# EAGLE library part CON_FFC7_NUTUBE (library wheat)
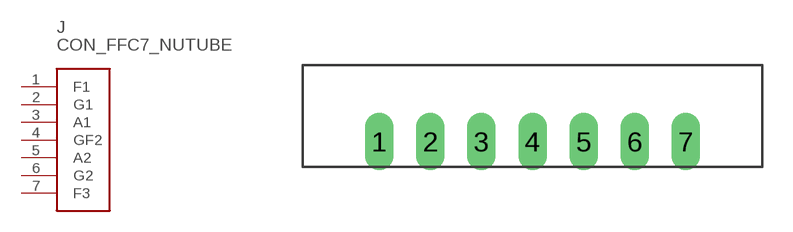
[diagram p292: symbol with the pads of CON_FLEX7; footprint CON_FLEX7]

Designator prefix J

## CON_FFC7_NUTUBE  [CON_FLEX7]
1  F1
2  G1
3  A1
4  GF2
5  A2
6  G2
7  F3

## Footprint CON_FLEX7 (pad centres in mm)
drill 0.9 pad 1.422 long: 1 -7.62,0; 2 -5.08,0; 3 -2.54,0; 4 0,0; 5 2.54,0; 6 5.08,0; 7 7.62,0